# EAGLE library part XRP7620_ (library Chromation)
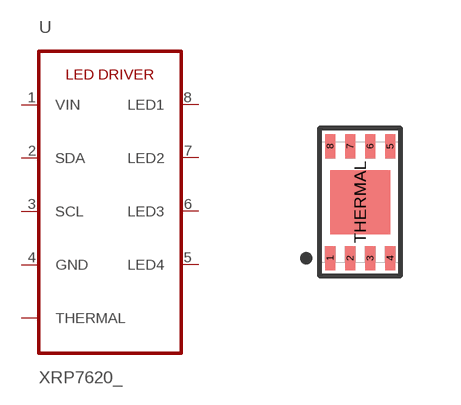
[diagram p8: symbol with the pads of DFN-8; footprint DFN-8]

Designator prefix U

## XRP7620_DFN-8  [DFN-8]
1  VIN
2  SDA
3  SCL
4  GND
5  LED4
6  LED3
7  LED2
8  LED1
THERMAL  THERMAL

## Footprint DFN-8 (pad centres in mm)
smd 0.25 x 0.6: 1 -0.75,-1.4; 2 -0.25,-1.4; 3 0.25,-1.4; 4 0.75,-1.4; 5 0.75,1.4; 6 0.25,1.4; 7 -0.25,1.4; 8 -0.75,1.4
smd 1.5 x 1.6: THERMAL 0,0